# Altium schematic symbol library 1871058-1.SchLib: 1 symbol
Pins are listed as number, name and electrical type; pins without a type are passive.

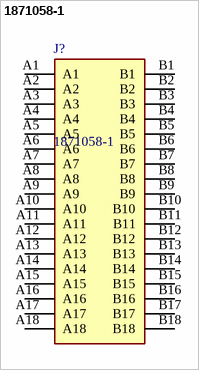
[diagram p0: symbol 1871058-1]

## 1871058-1
designator J?
PCI EXPRESS CONN. EON TYPE, 36P, L=2.0; Manufacturer_Name: TE Connectivity; Geometry.Height: 11.25mm; Manufacturer_Part_Number: 1871058-1; Mouser Part Number: 571-1871058-1; Mouser Price/Stock: https://www.mouser.co.uk/ProductDetail/TE-Connectivity/1871058-1?qs=%252BoxYCnKeKt%252BrW4wNNMzC1A%3D%3D; Arrow Part Number: 1871058-1; Arrow Price/Stock: https://www.arrow.com/en/products/1871058-1/te-connectivity?region=nac; Datasheet Link: https://www.te.com/commerce/DocumentDelivery/DDEController?Action=showdoc&DocId=Customer+Drawing%7F1871058%7FH%7Fpdf%7FEnglish%7FENG_CD_1871058_H_baseFilename.pdf%7F1871058-1
footprint 18710581
pins: A1, A2, A3, A4, A5, A6, A7, A8, A9, A10, A11, A12, A13, A14, A15, A16, A17, A18, B1, B2, B3, B4, B5, B6, B7, B8, B9, B10, B11, B12, B13, B14, B15, B16, B17, B18